# Altium footprint library 整流桥.PcbLib: 11 footprints
Each footprint in its own frame and in the unit in brackets; x right, y up, seen from the top. Pads: shape width x height; smd on the part's side, far side on the other; paste and mask are expansions set on the pad; w line width, h text height; cw(c..) or ccw(c..) is an arc to the next point about the centre after c.
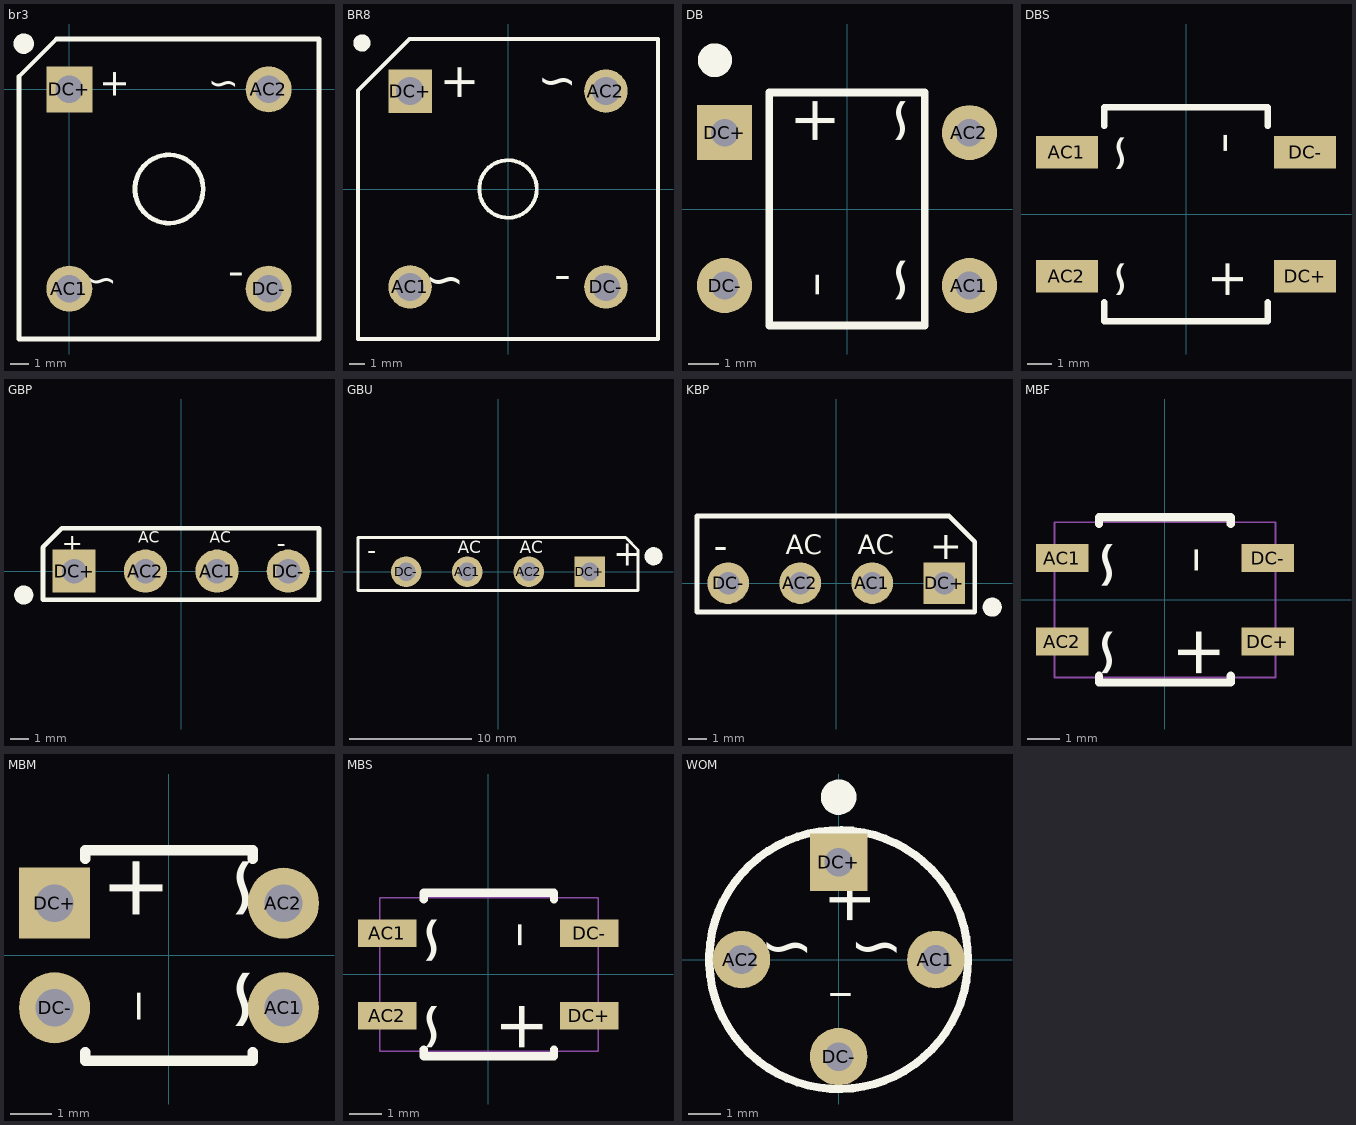
[diagram p0: the footprints below, top view; thin cyan lines are the x and y axes]

## br3 [mm]
pads (4):
  round 2.5 hole 1.5: AC1(0,-10.8) AC2(10.8,0) DC-(10.8,-10.8)
  rect 2.5x2.5 hole 1.5: DC+(0,0)
Top Overlay:
  circle w0.6: c-2.474,2.474 r0.254
  circle w0.254: c5.4,-5.4 r1.85
  lines w0.254: -2.728,-13.528 13.528,-13.528 13.528,2.728 -0.696,2.728 -2.728,0.696 -2.728,-13.528
  text "~" at 2.606,-11.496 h2.54
  text "~" at 9.21,-0.828 h2.54
  text "-" at 9.464,-11.242 h3.05
  text "+" at 1.336,-0.574 h2.54
3D body "br3-.STEP": height 6, standoff -3.5, extent -2.667,-13.461 13.333,2.539

## BR8 [mm]
pads (4):
  round 2.8 hole 1.8: AC1(-6.3,-6.3) AC2(6.3,6.3) DC-(6.3,-6.3)
  rect 2.8x2.8 hole 1.8: DC+(-6.3,6.3)
Top Overlay:
  circle w0.6: c-9.398,9.398 r0.254
  circle w0.254: c0,0 r1.85
  lines w0.254: -9.652,-9.652 9.652,-9.652 9.652,9.652 -6.35,9.652 -9.652,6.35 -9.652,-9.652
  text "~" at -2.794,-7.62 h3.81
  text "~" at 4.445,5.19 h3.81
  text "-" at 4.064,-7.239 h3.81
  text "+" at -4.826,5.588 h3.81
3D body "BR8-.STEP": height 7.1, standoff -3.5, extent -9.4,-9.552 9.5,9.348

## DB [mm]
pads (4):
  round 1.8 hole 0.9: AC1(4.004,-2.5) AC2(4.004,2.5) DC-(-4.004,-2.5)
  rect 1.8x1.8 hole 0.9: DC+(-4.004,2.5)
Top Overlay:
  circle w0.6: c-4.318,4.866 r0.254
  lines w0.254: -2.54,-3.81 -2.54,3.81 2.54,3.81 2.54,-3.81 -2.54,-3.81
  text "+" at -2.159,2.032 h2.54
  text "-" at -2.159,-2.921 h3.05
  text "~" at 0.635,2.032 h2.54
  text "~" at 0.635,-3.175 h2.54
3D body "DB-.STEP": height 3.2, standoff -3.01, extent -4.494,-4.29 4.378,4.21

## DBS [mm]
height 12.3
pads (4):
  rect 2.5x1.3 smd: AC1(-4.8,2.5) AC2(-4.8,-2.5) DC+(4.8,-2.5) DC-(4.8,2.5)
Top Overlay:
  lines w0.254: -3.302,-3.556 -3.302,-4.318 3.302,-4.318 3.302,-3.556 ; -3.302,3.556 -3.302,4.318 3.302,4.318 3.302,3.556
  text "+" at 2.794,-1.778 h2.54
  text "-" at 2.794,3.302 h3.05
  text "~" at -1.524,-1.778 h2.54
  text "~" at -1.524,3.302 h2.54
3D body "DBS-.STEP": height 3.1, standoff -0.03, extent -5.151,-4.231 4.949,4.269

## GBP [mm]
pads (4):
  round 2.3 hole 1.3: AC1(1.91,0) AC2(-1.9,0) DC-(5.7,0)
  rect 2.3x2.3 hole 1.3: DC+(-5.7,0)
Top Overlay:
  circle w0.508: c-8.382,-1.27 r0.254
  lines w0.254: -7.36,-1.524 -7.36,1.276 -6.35,2.286 7.34,2.286 7.34,-1.524 -7.36,-1.524
  text "AC" at 1.524,1.524 h0.6
  text "+" at -6.35,1.016 h1
  text "-" at 5.08,1.016 h1
  text "AC" at -2.286,1.524 h0.6
3D body "GBP-.STEP": height 12.8, standoff -3.6, extent -7.085,-1.122 7.115,1.778

## GBU [mm]
pads (4):
  round 2.5 hole 1.5: AC1(-2.5,0) AC2(2.5,0) DC-(-7.5,0)
  rect 2.5x2.5 hole 1.5: DC+(7.5,0)
Top Overlay:
  circle w0.762: c12.7,1.27 r0.359
  lines w0.254: -11.43,-1.524 11.43,-1.524 11.43,1.778 10.414,2.794 -8.422,2.794 -11.43,2.794 -11.43,-1.524
  text "AC" at 1.778,1.524 h1.02
  text "AC" at -3.302,1.524 h1.02
  text "+" at 9.398,0.508 h2.03
  text "-" at -10.668,1.016 h1.52
3D body "GBU-.STEP": height 20.8, standoff -4, extent -11.007,-1.087 10.993,2.413

## KBP [mm]
pads (4):
  round 2.2 hole 1.2: AC1(1.905,0) AC2(-1.905,0) DC-(-5.715,0)
  rect 2.2x2.2 hole 1.2: DC+(5.715,0)
Top Overlay:
  circle w0.508: c8.255,-1.27 r0.254
  lines w0.254: -7.365,-1.524 7.335,-1.524 7.335,2.19 5.975,3.55 -7.365,3.55 -7.365,-1.524
  text "AC" at 1.143,1.524 h1.02
  text "AC" at -2.667,1.524 h1.02
  text "-" at -6.477,1.27 h1.5
  text "+" at 4.953,1.27 h1.5
3D body "KBP-.STEP": height 11.7, standoff -3.1, extent -7.35,-1.244 7.35,3.556

## MBF [mm]
height 12.3
pads (4):
  rect 1.6x0.85 smd: AC1(-3.127,1.27) AC2(-3.127,-1.27) DC+(3.127,-1.27) DC-(3.127,1.27)
Top Overlay:
  lines w0.254: -2.007,-2.311 -2.007,-2.515 2.007,-2.515 2.007,-2.311 ; -2.007,2.311 -2.007,2.515 2.007,2.515 2.007,2.311
  text "~" at -0.635,1.905 h2.54
  text "~" at -0.635,-0.762 h2.54
  text "-" at 2.159,1.651 h3.05
  text "+" at 2.159,-0.762 h2.54
Mechanical 13:
  lines w0.05: -3.363,-2.363 3.363,-2.363 3.363,2.362 -3.363,2.362 -3.363,-2.363
3D body "MBF-.STEP": height 1.6, standoff -0.03, extent -3.579,-2.286 3.421,2.414

## MBM [mm]
pads (4):
  round 1.7 hole 0.9: AC1(2.737,-1.25) AC2(2.737,1.25) DC-(-2.737,-1.25)
  rect 1.7x1.7 hole 0.9: DC+(-2.737,1.25)
Top Overlay:
  lines w0.254: -2.007,-2.311 -2.007,-2.515 2.007,-2.515 2.007,-2.311 ; -2.007,2.311 -2.007,2.515 2.007,2.515 2.007,2.311
  text "~" at 0.635,-1.905 h2.54
  text "~" at 0.635,0.762 h2.54
  text "-" at -1.905,-1.651 h3.05
  text "+" at -1.905,0.762 h2.54
3D body "MBM-.STEP": height 2.6, standoff -3.11, extent -3.251,-2.413 2.997,2.387

## MBS [mm]
height 12.3
pads (4):
  rect 1.8x0.85 smd: AC1(-3.111,1.27) AC2(-3.111,-1.27) DC+(3.111,-1.27) DC-(3.111,1.27)
Top Overlay:
  lines w0.254: -1.991,-2.311 -1.991,-2.515 2.022,-2.515 2.022,-2.311 ; -1.991,2.311 -1.991,2.515 2.022,2.515 2.022,2.311
  text "~" at -0.62,1.905 h2.54
  text "~" at -0.62,-0.762 h2.54
  text "-" at 2.174,1.651 h3.05
  text "+" at 2.174,-0.762 h2.54
Mechanical 13:
  lines w0.05: -3.348,-2.363 -3.348,2.362 3.379,2.362 3.379,-2.363 -3.348,-2.363
3D body "MBS-.STEP": height 2.6, standoff -0.03, extent -3.385,-2.413 3.415,2.387

## WOM [mm]
pads (4):
  round 1.8 hole 0.9: AC1(3.04,0) AC2(-3.04,0) DC-(0,-3.04)
  rect 1.8x1.8 hole 0.9: DC+(0,3.04)
Top Overlay:
  circle w0.254: c0,0 r4.05
  circle w0.6: c0,5.08 r0.254
  text "~" at -0.762,-0.762 h2.54
  text "~" at 2.032,-0.762 h2.54
  text "-" at 0.508,-2.286 h3.05
  text "+" at -0.762,1.016 h2.54
3D body "WOM-.STEP": height 5.1, standoff -3.5, extent -4.155,-4.05 3.945,4.05